# Altium footprint library myPcbLib.PcbLib: 116 footprints (part 4 of 8)
Each footprint in its own frame and in the unit in brackets; x right, y up, seen from the top. Pads: shape width x height; smd on the part's side, far side on the other; paste and mask are expansions set on the pad; w line width, h text height; cw(c..) or ccw(c..) is an arc to the next point about the centre after c.
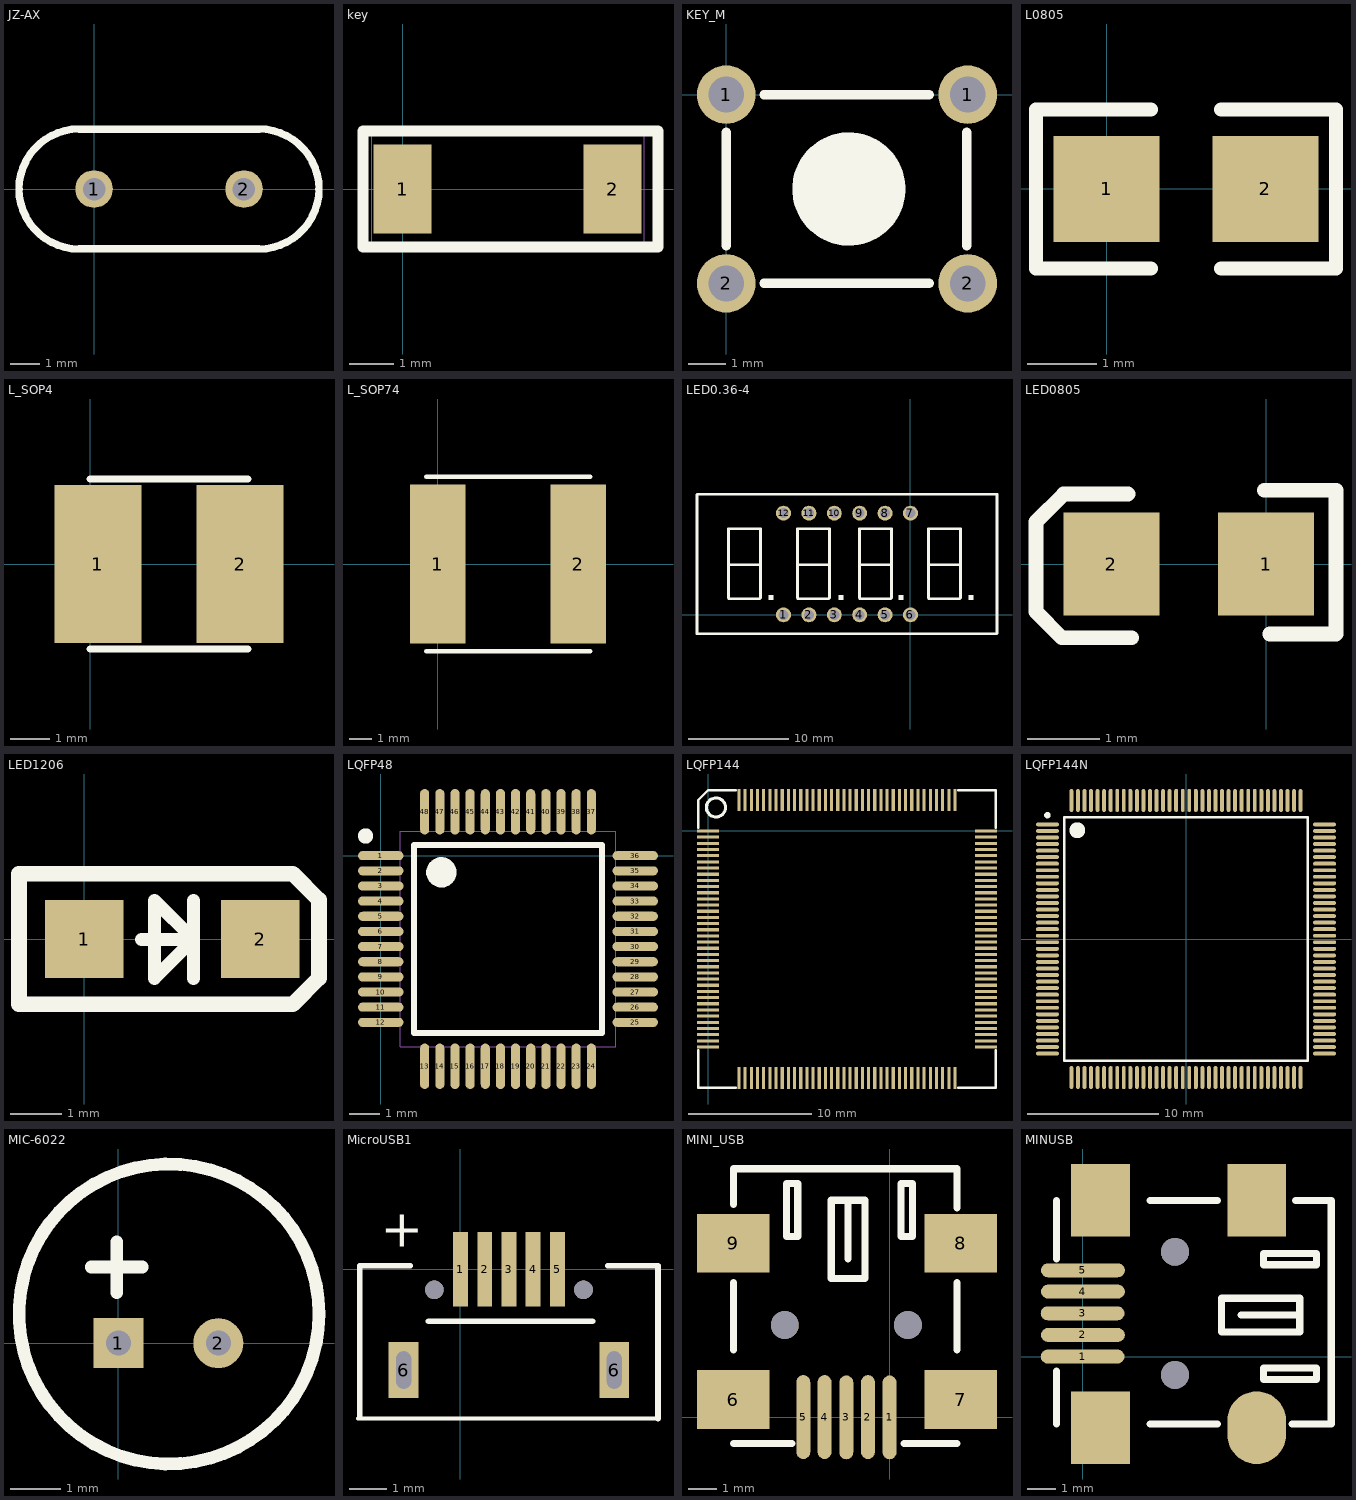
[diagram p3: the footprints below, top view; thin cyan lines are the x and y axes]

## JZ-AX [mil]
pads (2):
  round 50 hole 30: 1(0,0) 2(200,0)
Top Overlay:
  lines w10: -20,-80 cw(c-20,0) -20,80 220,80 cw(c220,0) 220,-80 -20,-80

## key [mm]
pads (2):
  rect 1.3x2 smd paste+0 mask+0.2: 1(0,0) 2(4.7,0)
Top Overlay:
  lines w0.254: -0.888,-1.3 5.716,-1.3 5.716,1.3 -0.888,1.3 -0.888,-1.3
Mechanical 1:
  lines w0.025: -0.695,-1.3 5.405,-1.3 5.405,1.3 -0.695,1.3 -0.695,-1.3
Mechanical 2:
  lines w0.003: -0.695,-1.3 5.405,-1.3 5.405,1.3 -0.695,1.3 -0.695,-1.3

## KEY_M [mil]
pads (4):
  round 62 hole 38: 1(0,0) 1(255.91,0) 2(0,-200) 2(255.91,-200)
Top Overlay:
  circle w60: c130,-100 r30
  lines w10: -0.03,-160 -0.03,-40 ; 39.97,-200 215,-200 ; 39.97,0 215,0 ; 255,-160 255,-40

## L0805 [mil]
height 100
pads (2):
  rect 60x60 smd: 1(0,0) 2(90,0)
Top Overlay:
  lines w8: 25,-45 -40,-45 -40,45 25,45 ; 65,-45 130,-45 130,45 65,45

## L_SOP4 [mm]
pads (2):
  rect 2.2x4 smd: 1(0.2,0) 2(3.8,0)
Top Overlay:
  lines w0.178: 0,-2.15 4,-2.15 ; 0,2.15 4,2.15

## L_SOP74 [mm]
pads (2):
  rect 2.5x7.2 smd: 1(0,0) 2(6.35,0)
Top Overlay:
  lines w0.203: -0.508,-3.937 6.892,-3.937 ; -0.508,3.937 6.892,3.937

## LED0.36-4 [mm] "0.36英寸4位数码管共阳"
pads (12):
  round 1.5 hole 1: 1(-12.7,0) 2(-10.16,0) 3(-7.62,0) 4(-5.08,0) 5(-2.54,0) 6(0,0) 7(0,10.16) 8(-2.54,10.16) 9(-5.08,10.16) 10(-7.62,10.16) 11(-10.16,10.16) 12(-12.7,10.16)
Top Overlay:
  rectangle: 5.8,1.5 6.3,2
  rectangle: -1.2,1.5 -0.7,2
  rectangle: -7.2,1.5 -6.7,2
  rectangle: -14.2,1.5 -13.7,2
  lines w0.254: -21.125,12.06 8.425,12.06 ; -20.9,12.06 -21.3,12.06 -21.35,12.01 -21.35,10.16 -21.35,0 -21.35,-1.675 -21.35,-1.89 -21.34,-1.9 -21.125,-1.9 8.425,-1.9 8.6,-1.9 8.65,-1.85 8.65,0 8.65,10.16 8.65,12.05 8.64,12.06 8.1,12.06 ; -18.2,5 -15.1,5 -15,5.1 ; -11.3,5 -8.2,5 -8.1,5.1 ; -5.1,5 -2,5 -1.9,5.1 ; 1.8,5 4.9,5 5,5.1 ; -18.2,1.7 -18.159,1.6 -15.1,1.6 -15,1.7 -15,8.6 -17.8,8.6 -18.2,8.6 -18.2,1.7 ; -11.3,1.7 -11.3,8.6 -10.9,8.6 -8.1,8.6 -8.1,1.7 -8.2,1.6 -11.259,1.6 -11.3,1.7 ; -5.1,1.7 -5.1,8.6 -4.7,8.6 -1.9,8.6 -1.9,1.7 -2,1.6 -5.059,1.6 -5.1,1.7 ; 1.8,1.7 1.841,1.6 4.9,1.6 5,1.7 5,8.6 2.2,8.6 1.8,8.6 1.8,1.7

## LED0805 [mil]
height 100
pads (2):
  rect 52x56 smd: 1(0,0) 2(-84,0)
Top Overlay:
  lines w8: -75,38 -110,38 -125,23 -125,-26 -111,-40 -73,-40 ; -1,40 38,40 38,-38 2,-38

## LED1206 [mil]
pads (2):
  rect 60x60 smd: 1(0,0) 2(135,0)
Top Overlay:
  lines w10: 43.78,-0.32 83.78,-0.32 ; 83.78,-30.32 83.78,29.68 ; 83.78,-0.32 53.78,29.68 53.78,-30.32 83.78,-0.32
  lines w12: -50,-50 25,-50 70,-50 120,-50 160,-50 180,-30 180,-20 180,30 160,50 110,50 25,50 -50,50 -50,-50

## LQFP48 [mm] "LQFP48-7×7mm-STM32F051C8T6"
pads (48):
  oval 1.5x0.3 smd: 1(0,0) 2(0,-0.5) 3(0,-1) 4(0,-1.5) 5(0,-2) 6(0,-2.5) 7(0,-3) 8(0,-3.5) 9(0,-4) 10(0,-4.5) 11(0,-5) 12(0,-5.5) 25(8.4,-5.5) 26(8.4,-5) 27(8.4,-4.5) 28(8.4,-4) 29(8.4,-3.5) 30(8.4,-3) 31(8.4,-2.5) 32(8.4,-2) 33(8.4,-1.5) 34(8.4,-1) 35(8.4,-0.5) 36(8.4,0)
  oval 0.3x1.5 smd: 13(1.45,-6.95) 14(1.95,-6.95) 15(2.45,-6.95) 16(2.95,-6.95) 17(3.45,-6.95) 18(3.95,-6.95) 19(4.45,-6.95) 20(4.95,-6.95) 21(5.45,-6.95) 22(5.95,-6.95) 23(6.45,-6.95) 24(6.95,-6.95) 37(6.95,1.45) 38(6.45,1.45) 39(5.95,1.45) 40(5.45,1.45) 41(4.95,1.45) 42(4.45,1.45) 43(3.95,1.45) 44(3.45,1.45) 45(2.95,1.45) 46(2.45,1.45) 47(1.95,1.45) 48(1.45,1.45)
Top Overlay:
  circle w0.5: c2,-0.55 r0.25
  circle w0.25: c-0.5,0.65 r0.125
  lines w0.2: 1.1,-5.85 1.1,0.35 7.3,0.35 7.3,-5.85 1.1,-5.85
Mechanical 16:
  lines w0.001: 0.65,-6.3 0.65,0.8 7.75,0.8 7.75,-6.3 0.65,-6.3

## LQFP144 [mm]
pads (144):
  rect 1.8x0.254 smd: 1(-0.009,0.001) 2(-0.009,-0.499) 3(-0.009,-0.999) 4(-0.009,-1.499) 5(-0.009,-1.999) 6(-0.009,-2.499) 7(-0.009,-2.999) 8(-0.009,-3.499) 9(-0.009,-3.999) 10(-0.009,-4.499) 11(-0.009,-4.999) 12(-0.009,-5.499) 13(-0.009,-5.999) 14(-0.009,-6.499) 15(-0.009,-6.999) 16(-0.009,-7.499) 17(-0.009,-7.999) 18(-0.009,-8.499) 19(-0.009,-8.999) 20(-0.009,-9.499) 21(-0.009,-9.999) 22(-0.009,-10.499) 23(-0.009,-10.999) 24(-0.009,-11.499) 25(-0.009,-11.999) 26(-0.009,-12.499) 27(-0.009,-12.999) 28(-0.009,-13.499) 29(-0.009,-13.999) 30(-0.009,-14.499) 31(-0.009,-14.999) 32(-0.009,-15.499) 33(-0.009,-15.999) 34(-0.009,-16.499) 35(-0.009,-16.999) 36(-0.009,-17.499) 73(22.491,-17.499) 74(22.491,-16.999) 75(22.491,-16.499) 76(22.491,-15.999) 77(22.491,-15.499) 78(22.491,-14.999) 79(22.491,-14.499) 80(22.491,-13.999) 81(22.491,-13.499) 82(22.491,-12.999) 83(22.491,-12.499) 84(22.491,-11.999) 85(22.491,-11.499) 86(22.491,-10.999) 87(22.491,-10.499) 88(22.491,-9.999) 89(22.491,-9.499) 90(22.491,-8.999) 91(22.491,-8.499) 92(22.491,-7.999) 93(22.491,-7.499) 94(22.491,-6.999) 95(22.491,-6.499) 96(22.491,-5.999) 97(22.491,-5.499) 98(22.491,-4.999) 99(22.491,-4.499) 100(22.491,-3.999) 101(22.491,-3.499) 102(22.491,-2.999) 103(22.491,-2.499) 104(22.491,-1.999) 105(22.491,-1.499) 106(22.491,-0.999) 107(22.491,-0.499) 108(22.491,0.001)
  rect 0.254x1.8 smd: 37(2.491,-19.999) 38(2.991,-19.999) 39(3.491,-19.999) 40(3.991,-19.999) 41(4.491,-19.999) 42(4.991,-19.999) 43(5.491,-19.999) 44(5.991,-19.999) 45(6.491,-19.999) 46(6.991,-19.999) 47(7.491,-19.999) 48(7.991,-19.999) 49(8.491,-19.999) 50(8.991,-19.999) 51(9.491,-19.999) 52(9.991,-19.999) 53(10.491,-19.999) 54(10.991,-19.999) 55(11.491,-19.999) 56(11.991,-19.999) 57(12.491,-19.999) 58(12.991,-19.999) 59(13.491,-19.999) 60(13.991,-19.999) 61(14.491,-19.999) 62(14.991,-19.999) 63(15.491,-19.999) 64(15.991,-19.999) 65(16.491,-19.999) 66(16.991,-19.999) 67(17.491,-19.999) 68(17.991,-19.999) 69(18.491,-19.999) 70(18.991,-19.999) 71(19.491,-19.999) 72(19.991,-19.999) 109(19.991,2.501) 110(19.491,2.501) 111(18.991,2.501) 112(18.491,2.501) 113(17.991,2.501) 114(17.491,2.501) 115(16.991,2.501) 116(16.491,2.501) 117(15.991,2.501) 118(15.491,2.501) 119(14.991,2.501) 120(14.491,2.501) 121(13.991,2.501) 122(13.491,2.501) 123(12.991,2.501) 124(12.491,2.501) 125(11.991,2.501) 126(11.491,2.501) 127(10.991,2.501) 128(10.491,2.501) 129(9.991,2.501) 130(9.491,2.501) 131(8.991,2.501) 132(8.491,2.501) 133(7.991,2.501) 134(7.491,2.501) 135(6.991,2.501) 136(6.491,2.501) 137(5.991,2.501) 138(5.491,2.501) 139(4.991,2.501) 140(4.491,2.501) 141(3.991,2.501) 142(3.491,2.501) 143(2.991,2.501) 144(2.491,2.501)
Top Overlay:
  circle w0.254: c0.624,1.905 r0.773
  lines w0.2: -0.809,-17.749 -0.809,-20.799 2.241,-20.799 ; -0.809,0.251 -0.809,2.501 -0.009,3.301 2.241,3.301 ; 20.241,-20.799 23.291,-20.799 23.291,-17.749 ; 20.241,3.301 23.291,3.301 23.291,0.251

## LQFP144N [mm]
height 1.6
pads (144):
  oval 1.75x0.297 smd: 1(-10.575,8.75) 2(-10.575,8.25) 3(-10.575,7.75) 4(-10.575,7.25) 5(-10.575,6.75) 6(-10.575,6.25) 7(-10.575,5.75) 8(-10.575,5.25) 9(-10.575,4.75) 10(-10.575,4.25) 11(-10.575,3.75) 12(-10.575,3.25) 13(-10.575,2.75) 14(-10.575,2.25) 15(-10.575,1.75) 16(-10.575,1.25) 17(-10.575,0.75) 18(-10.575,0.25) 19(-10.575,-0.25) 20(-10.575,-0.75) 21(-10.575,-1.25) 22(-10.575,-1.75) 23(-10.575,-2.25) 24(-10.575,-2.75) 25(-10.575,-3.25) 26(-10.575,-3.75) 27(-10.575,-4.25) 28(-10.575,-4.75) 29(-10.575,-5.25) 30(-10.575,-5.75) 31(-10.575,-6.25) 32(-10.575,-6.75) 33(-10.575,-7.25) 34(-10.575,-7.75) 35(-10.575,-8.25) 36(-10.575,-8.75) 73(10.575,-8.75) 74(10.575,-8.25) 75(10.575,-7.75) 76(10.575,-7.25) 77(10.575,-6.75) 78(10.575,-6.25) 79(10.575,-5.75) 80(10.575,-5.25) 81(10.575,-4.75) 82(10.575,-4.25) 83(10.575,-3.75) 84(10.575,-3.25) 85(10.575,-2.75) 86(10.575,-2.25) 87(10.575,-1.75) 88(10.575,-1.25) 89(10.575,-0.75) 90(10.575,-0.25) 91(10.575,0.25) 92(10.575,0.75) 93(10.575,1.25) 94(10.575,1.75) 95(10.575,2.25) 96(10.575,2.75) 97(10.575,3.25) 98(10.575,3.75) 99(10.575,4.25) 100(10.575,4.75) 101(10.575,5.25) 102(10.575,5.75) 103(10.575,6.25) 104(10.575,6.75) 105(10.575,7.25) 106(10.575,7.75) 107(10.575,8.25) 108(10.575,8.75)
  oval 0.297x1.75 smd: 37(-8.75,-10.575) 38(-8.25,-10.575) 39(-7.75,-10.575) 40(-7.25,-10.575) 41(-6.75,-10.575) 42(-6.25,-10.575) 43(-5.75,-10.575) 44(-5.25,-10.575) 45(-4.75,-10.575) 46(-4.25,-10.575) 47(-3.75,-10.575) 48(-3.25,-10.575) 49(-2.75,-10.575) 50(-2.25,-10.575) 51(-1.75,-10.575) 52(-1.25,-10.575) 53(-0.75,-10.575) 54(-0.25,-10.575) 55(0.25,-10.575) 56(0.75,-10.575) 57(1.25,-10.575) 58(1.75,-10.575) 59(2.25,-10.575) 60(2.75,-10.575) 61(3.25,-10.575) 62(3.75,-10.575) 63(4.25,-10.575) 64(4.75,-10.575) 65(5.25,-10.575) 66(5.75,-10.575) 67(6.25,-10.575) 68(6.75,-10.575) 69(7.25,-10.575) 70(7.75,-10.575) 71(8.25,-10.575) 72(8.75,-10.575) 109(8.75,10.575) 110(8.25,10.575) 111(7.75,10.575) 112(7.25,10.575) 113(6.75,10.575) 114(6.25,10.575) 115(5.75,10.575) 116(5.25,10.575) 117(4.75,10.575) 118(4.25,10.575) 119(3.75,10.575) 120(3.25,10.575) 121(2.75,10.575) 122(2.25,10.575) 123(1.75,10.575) 124(1.25,10.575) 125(0.75,10.575) 126(0.25,10.575) 127(-0.25,10.575) 128(-0.75,10.575) 129(-1.25,10.575) 130(-1.75,10.575) 131(-2.25,10.575) 132(-2.75,10.575) 133(-3.25,10.575) 134(-3.75,10.575) 135(-4.25,10.575) 136(-4.75,10.575) 137(-5.25,10.575) 138(-5.75,10.575) 139(-6.25,10.575) 140(-6.75,10.575) 141(-7.25,10.575) 142(-7.75,10.575) 143(-8.25,10.575) 144(-8.75,10.575)
Top Overlay:
  circle w0.6: c-8.3,8.3 r0.3
  circle w0.25: c-10.575,9.45 r0.125
  lines w0.2: -9.3,-9.3 9.3,-9.3 9.3,9.3 -9.3,9.3 -9.3,-9.3

## MIC-6022 [mm]
pads (2):
  rect 1x1 hole 0.5: 1(0,0)
  round 1 hole 0.5: 2(2,0)
Top Overlay:
  circle w0.254: c1.013,0.584 r3
  lines w0.254: -0.54,1.524 0.476,1.524 ; -0.032,1.016 -0.032,2.032

## MicroUSB1 [mm] "MircroUSBĸͷ"
pads (9):
  rect 0.4x2 smd: 1(0,0) 2(0.65,0) 3(1.3,0) 4(1.95,0) 5(2.6,0)
  rect 0.8x1.5 hole 0.4 slot 1 at 90 deg: 6(-1.525,-2.7) 6(4.125,-2.7)
  round 0.5 hole 0.5 unplated: ""(-0.7,-0.55) ""(3.3,-0.55)
Top Overlay:
  lines w0.1: -2.75,-4 5.3,-4
  lines w0.152: -2.7,-3.95 -2.7,-1.616 -2.7,0.1 -1.35,0.1 ; -0.859,-1.391 3.541,-1.391 ; 3.95,0.1 5.3,0.1 5.3,-1.65 5.3,-4
  text "+" at -2.137,0.608 h1
Keep-Out Layer:
  lines w0.127: -1.754,-3.243 -1.296,-3.243 -1.296,-2.125 -1.754,-2.125 -1.754,-3.243 ; 3.896,-3.243 4.354,-3.243 4.354,-2.125 3.896,-2.125 3.896,-3.243
Mechanical 1:
  lines w0.127: -1.754,-3.243 -1.754,-2.125 -1.296,-2.125 -1.296,-3.243 -1.754,-3.243 ; 3.896,-3.243 3.896,-2.125 4.354,-2.125 4.354,-3.243 3.896,-3.243

## MINI_USB [mm]
pads (11):
  oval 0.5x3 smd: 1(0,0) 2(-0.775,0.009) 3(-1.549,0) 4(-2.324,0.009) 5(-3.086,0.009)
  rect 2.6x2.1 smd: 6(-5.588,0.635) 7(2.54,0.635) 8(2.54,6.223) 9(-5.588,6.223)
  round 1 hole 1: ""(-3.749,3.299) ""(0.651,3.299)
Top Overlay:
  lines w0.254: -5.588,2.413 -5.588,4.826 ; -5.586,-0.938 -3.486,-0.938 ; -5.586,7.62 -5.586,8.89 2.414,8.89 2.414,7.493 ; -1.486,5.662 -1.486,7.762 ; 0.514,-0.938 2.414,-0.938 ; 2.413,2.413 2.413,4.826 ; -3.686,6.462 -3.286,6.462 -3.286,8.362 -3.686,8.362 -3.686,6.462 ; -2.086,4.962 -2.086,7.762 -0.886,7.762 -0.886,4.962 -2.086,4.962 ; 0.414,6.462 0.814,6.462 0.814,8.362 0.414,8.362 0.414,6.462

## MINUSB [mm]
pads (11):
  oval 3x0.5 smd: 1(0,0) 2(0.009,0.775) 3(0,1.549) 4(0.009,2.324) 5(0.009,3.086)
  rect 2.1x2.6 smd: ""(0.635,-2.54) ""(0.635,5.588) ""(6.223,5.588)
  round 1 hole 1: ""(3.299,-0.651) ""(3.299,3.749)
  oval 2.1x2.6 smd: ""(6.223,-2.54)
Top Overlay:
  lines w0.254: -0.938,-2.414 -0.938,-0.514 ; -0.938,3.486 -0.938,5.586 ; 2.413,-2.413 4.826,-2.413 ; 2.413,5.588 4.826,5.588 ; 5.662,1.486 7.762,1.486 ; 7.493,-2.414 8.89,-2.414 8.89,5.586 7.62,5.586 ; 4.962,0.886 4.962,2.086 7.762,2.086 7.762,0.886 4.962,0.886 ; 6.462,-0.814 8.362,-0.814 8.362,-0.414 6.462,-0.414 6.462,-0.814 ; 6.462,3.286 8.362,3.286 8.362,3.686 6.462,3.686 6.462,3.286